# Altium footprint library blecontrollerPCB1_master.PcbLib: 180 footprints (part 8 of 12)
Each footprint in its own frame and in the unit in brackets; x right, y up, seen from the top. Pads: shape width x height; smd on the part's side, far side on the other; paste and mask are expansions set on the pad; w line width, h text height; cw(c..) or ccw(c..) is an arc to the next point about the centre after c.
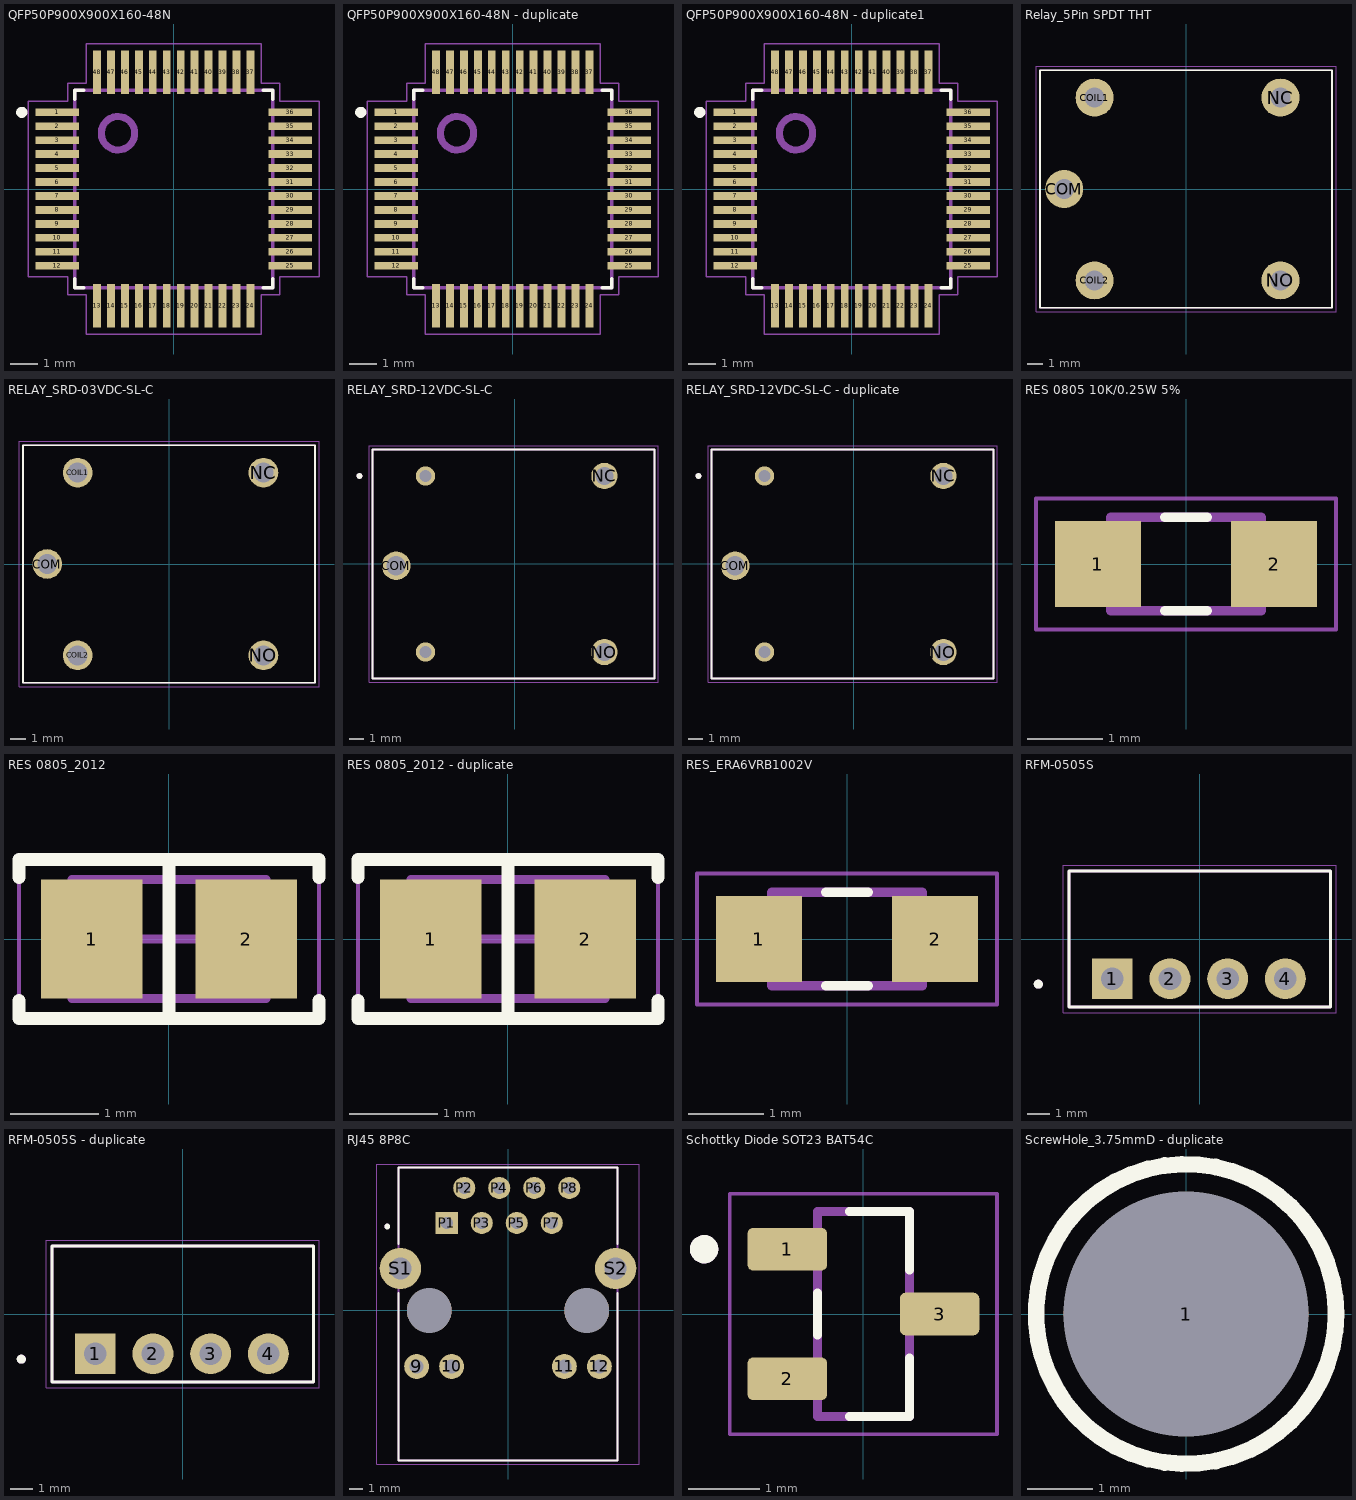
[diagram p7: the footprints below, top view; thin cyan lines are the x and y axes]

## QFP50P900X900X160-48N [mm]
pads (48):
  rect 1.56x0.28 smd: 1(-4.18,2.75) 2(-4.18,2.25) 3(-4.18,1.75) 4(-4.18,1.25) 5(-4.18,0.75) 6(-4.18,0.25) 7(-4.18,-0.25) 8(-4.18,-0.75) 9(-4.18,-1.25) 10(-4.18,-1.75) 11(-4.18,-2.25) 12(-4.18,-2.75) 25(4.18,-2.75) 26(4.18,-2.25) 27(4.18,-1.75) 28(4.18,-1.25) 29(4.18,-0.75) 30(4.18,-0.25) 31(4.18,0.25) 32(4.18,0.75) 33(4.18,1.25) 34(4.18,1.75) 35(4.18,2.25) 36(4.18,2.75)
  rect 0.28x1.56 smd: 13(-2.75,-4.18) 14(-2.25,-4.18) 15(-1.75,-4.18) 16(-1.25,-4.18) 17(-0.75,-4.18) 18(-0.25,-4.18) 19(0.25,-4.18) 20(0.75,-4.18) 21(1.25,-4.18) 22(1.75,-4.18) 23(2.25,-4.18) 24(2.75,-4.18) 37(2.75,4.18) 38(2.25,4.18) 39(1.75,4.18) 40(1.25,4.18) 41(0.75,4.18) 42(0.25,4.18) 43(-0.25,4.18) 44(-0.75,4.18) 45(-1.25,4.18) 46(-1.75,4.18) 47(-2.25,4.18) 48(-2.75,4.18)
Top Overlay:
  circle w0.2: c-5.45,2.75 r0.1
  lines w0.127: -3.55,-3.22 -3.55,-3.55 -3.22,-3.55 ; -3.55,3.22 -3.55,3.55 -3.22,3.55 ; 3.22,-3.55 3.55,-3.55 3.55,-3.22 ; 3.22,3.55 3.55,3.55 3.55,3.22
Mechanical 13:
  drawing of 53 lines, arcs and shapes, not listed
Mechanical 15:
  lines w0.05: -5.21,-3.14 -5.21,3.14 -3.8,3.14 -3.8,3.8 -3.14,3.8 -3.14,5.21 3.14,5.21 3.14,3.8 3.8,3.8 3.8,3.14 5.21,3.14 5.21,-3.14 3.8,-3.14 3.8,-3.8 3.14,-3.8 3.14,-5.21 -3.14,-5.21 -3.14,-3.8 -3.8,-3.8 -3.8,-3.14 -5.21,-3.14
3D body "W5500--3DModel-STEP-56544.STEP": height 1.6, standoff 0, extent -4.5,-4.5 4.5,4.5

## QFP50P900X900X160-48N - duplicate [mm]
pads (48):
  rect 1.56x0.28 smd: 1(-4.18,2.75) 2(-4.18,2.25) 3(-4.18,1.75) 4(-4.18,1.25) 5(-4.18,0.75) 6(-4.18,0.25) 7(-4.18,-0.25) 8(-4.18,-0.75) 9(-4.18,-1.25) 10(-4.18,-1.75) 11(-4.18,-2.25) 12(-4.18,-2.75) 25(4.18,-2.75) 26(4.18,-2.25) 27(4.18,-1.75) 28(4.18,-1.25) 29(4.18,-0.75) 30(4.18,-0.25) 31(4.18,0.25) 32(4.18,0.75) 33(4.18,1.25) 34(4.18,1.75) 35(4.18,2.25) 36(4.18,2.75)
  rect 0.28x1.56 smd: 13(-2.75,-4.18) 14(-2.25,-4.18) 15(-1.75,-4.18) 16(-1.25,-4.18) 17(-0.75,-4.18) 18(-0.25,-4.18) 19(0.25,-4.18) 20(0.75,-4.18) 21(1.25,-4.18) 22(1.75,-4.18) 23(2.25,-4.18) 24(2.75,-4.18) 37(2.75,4.18) 38(2.25,4.18) 39(1.75,4.18) 40(1.25,4.18) 41(0.75,4.18) 42(0.25,4.18) 43(-0.25,4.18) 44(-0.75,4.18) 45(-1.25,4.18) 46(-1.75,4.18) 47(-2.25,4.18) 48(-2.75,4.18)
Top Overlay:
  circle w0.2: c-5.45,2.75 r0.1
  lines w0.127: -3.55,-3.22 -3.55,-3.55 -3.22,-3.55 ; -3.55,3.22 -3.55,3.55 -3.22,3.55 ; 3.22,-3.55 3.55,-3.55 3.55,-3.22 ; 3.22,3.55 3.55,3.55 3.55,3.22
Mechanical 13:
  drawing of 53 lines, arcs and shapes, not listed
Mechanical 15:
  lines w0.05: -5.21,-3.14 -5.21,3.14 -3.8,3.14 -3.8,3.8 -3.14,3.8 -3.14,5.21 3.14,5.21 3.14,3.8 3.8,3.8 3.8,3.14 5.21,3.14 5.21,-3.14 3.8,-3.14 3.8,-3.8 3.14,-3.8 3.14,-5.21 -3.14,-5.21 -3.14,-3.8 -3.8,-3.8 -3.8,-3.14 -5.21,-3.14
3D body "W5500--3DModel-STEP-56544.STEP": height 1.6, standoff 0, extent -4.5,-4.5 4.5,4.5

## QFP50P900X900X160-48N - duplicate1 [mm]
pads (48):
  rect 1.56x0.28 smd: 1(-4.18,2.75) 2(-4.18,2.25) 3(-4.18,1.75) 4(-4.18,1.25) 5(-4.18,0.75) 6(-4.18,0.25) 7(-4.18,-0.25) 8(-4.18,-0.75) 9(-4.18,-1.25) 10(-4.18,-1.75) 11(-4.18,-2.25) 12(-4.18,-2.75) 25(4.18,-2.75) 26(4.18,-2.25) 27(4.18,-1.75) 28(4.18,-1.25) 29(4.18,-0.75) 30(4.18,-0.25) 31(4.18,0.25) 32(4.18,0.75) 33(4.18,1.25) 34(4.18,1.75) 35(4.18,2.25) 36(4.18,2.75)
  rect 0.28x1.56 smd: 13(-2.75,-4.18) 14(-2.25,-4.18) 15(-1.75,-4.18) 16(-1.25,-4.18) 17(-0.75,-4.18) 18(-0.25,-4.18) 19(0.25,-4.18) 20(0.75,-4.18) 21(1.25,-4.18) 22(1.75,-4.18) 23(2.25,-4.18) 24(2.75,-4.18) 37(2.75,4.18) 38(2.25,4.18) 39(1.75,4.18) 40(1.25,4.18) 41(0.75,4.18) 42(0.25,4.18) 43(-0.25,4.18) 44(-0.75,4.18) 45(-1.25,4.18) 46(-1.75,4.18) 47(-2.25,4.18) 48(-2.75,4.18)
Top Overlay:
  circle w0.2: c-5.45,2.75 r0.1
  lines w0.127: -3.55,-3.22 -3.55,-3.55 -3.22,-3.55 ; -3.55,3.22 -3.55,3.55 -3.22,3.55 ; 3.22,-3.55 3.55,-3.55 3.55,-3.22 ; 3.22,3.55 3.55,3.55 3.55,3.22
Mechanical 13:
  drawing of 53 lines, arcs and shapes, not listed
Mechanical 15:
  lines w0.05: -5.21,-3.14 -5.21,3.14 -3.8,3.14 -3.8,3.8 -3.14,3.8 -3.14,5.21 3.14,5.21 3.14,3.8 3.8,3.8 3.8,3.14 5.21,3.14 5.21,-3.14 3.8,-3.14 3.8,-3.8 3.14,-3.8 3.14,-5.21 -3.14,-5.21 -3.14,-3.8 -3.8,-3.8 -3.8,-3.14 -5.21,-3.14
3D body "W5500--3DModel-STEP-56544.STEP": height 1.6, standoff 0, extent -4.5,-4.5 4.5,4.5

## Relay_5Pin SPDT THT [mm] "Relay_5Pin SPDT THT RELAY_SRD-03VDC-SL-C"
height 15.8
pads (5):
  round 2.5 hole 1.3: COIL1(-6,6) COIL2(-6,-6) COM(-8,0) NC(6.2,6) NO(6.2,-6)
Top Overlay:
  lines w0.127: -9.6,-7.8 9.6,-7.8 9.6,7.8 -9.6,7.8 -9.6,-7.8
Mechanical 13:
  lines w0.127: -9.6,-7.8 9.6,-7.8 9.6,7.8 -9.6,7.8 -9.6,-7.8
Mechanical 15:
  lines w0.05: -9.85,-8.05 9.85,-8.05 9.85,8.05 -9.85,8.05 -9.85,-8.05
3D body "step_temp.STEP": height 15.8, standoff -3, extent -9.6,-7.8 9.6,7.8

## RELAY_SRD-03VDC-SL-C [mm]
height 15.8
pads (5):
  round 1.95 hole 1.3: COIL1(-6,6) COIL2(-6,-6) COM(-8,0) NC(6.2,6) NO(6.2,-6)
Top Overlay:
  lines w0.127: -9.6,-7.8 9.6,-7.8 9.6,7.8 -9.6,7.8 -9.6,-7.8
Mechanical 13:
  lines w0.127: -9.6,-7.8 9.6,-7.8 9.6,7.8 -9.6,7.8 -9.6,-7.8
Mechanical 15:
  lines w0.05: -9.85,-8.05 9.85,-8.05 9.85,8.05 -9.85,8.05 -9.85,-8.05
3D body "step_temp.STEP": height 15.8, standoff -3, extent -9.6,-7.8 9.6,7.8

## RELAY_SRD-12VDC-SL-C [mm]
pads (5):
  round 1.308 hole 0.8: COIL1(-6.1,6) COIL2(-6.1,-6)
  round 1.95 hole 1.3: COM(-8.1,-0.12)
  round 1.8 hole 1.2: NC(6.1,6) NO(6.1,-6)
Top Overlay:
  circle w0.2: c-10.6,6 r0.1
  lines w0.127: -9.7,-7.8 9.5,-7.8 9.5,7.8 -9.7,7.8 -9.7,-7.8
Mechanical 13:
  circle w0.2: c-10.6,6 r0.1
  lines w0.127: -9.7,-7.8 9.5,-7.8 9.5,7.8 -9.7,7.8 -9.7,-7.8
Mechanical 15:
  lines w0.05: -9.95,-8.05 9.75,-8.05 9.75,8.05 -9.95,8.05 -9.95,-8.05
3D body "step_temp.STEP": height 15.8, standoff -3, extent -9.6,-7.8 9.6,7.8

## RELAY_SRD-12VDC-SL-C - duplicate [mm]
pads (5):
  round 1.308 hole 0.8: COIL1(-6.1,6) COIL2(-6.1,-6)
  round 1.95 hole 1.3: COM(-8.1,-0.12)
  round 1.8 hole 1.2: NC(6.1,6) NO(6.1,-6)
Top Overlay:
  circle w0.2: c-10.6,6 r0.1
  lines w0.127: -9.7,-7.8 9.5,-7.8 9.5,7.8 -9.7,7.8 -9.7,-7.8
Mechanical 13:
  circle w0.2: c-10.6,6 r0.1
  lines w0.127: -9.7,-7.8 9.5,-7.8 9.5,7.8 -9.7,7.8 -9.7,-7.8
Mechanical 15:
  lines w0.05: -9.95,-8.05 9.75,-8.05 9.75,8.05 -9.95,8.05 -9.95,-8.05
3D body "step_temp.STEP": height 15.8, standoff -3, extent -9.6,-7.8 9.6,7.8

## RES 0805 10K/0.25W 5% [mm] "RESISTOR, THICK FILM, 10K, 5%, 0805, SMT FULL REEL Product Range:PANASONIC - ERJ Series"
height 0.55
pads (2):
  rect 1.15x1.15 smd: 1(-1.175,0) 2(1.175,0)
Top Overlay:
  lines w0.127: -0.28,-0.625 0.28,-0.625 ; -0.28,0.625 0.28,0.625
Mechanical 13:
  lines w0.127: -1,-0.625 1,-0.625 1,0.625 -1,0.625 -1,-0.625
Mechanical 15:
  lines w0.05: -2,-0.875 2,-0.875 2,0.875 -2,0.875 -2,-0.875
3D body "step_temp.STEP": height 0.7, standoff 0, extent -1,-0.625 1,0.625

## RES 0805_2012 [mm]
pads (2):
  rect 1.15x1.35 smd: 1(-0.875,0) 2(0.875,0)
Top Overlay:
  lines w0.15: -1.7,-0.7 -1.7,-0.9 1.7,-0.9 1.7,-0.7 ; -1.7,0.7 -1.7,0.9 1.7,0.9 1.7,0.7 ; 0,-0.9 0,0.9
Mechanical 13:
  lines w0.1: -1.1,-0.675 -1.1,0.675 1.1,0.675 1.1,-0.675 -1.1,-0.675
Mechanical 15:
  lines w0.05: -1.7,-0.95 -1.7,0.95 1.7,0.95 1.7,-0.95 -1.7,-0.95
  lines w0.1: -0.5,0 0.5,0 ; 0,-0.5 0,0.5
3D body "0805 resistor.STEP": height 0.6, standoff 0, extent -1,-0.625 1,0.625

## RES 0805_2012 - duplicate [mm]
pads (2):
  rect 1.15x1.35 smd: 1(-0.875,0) 2(0.875,0)
Top Overlay:
  lines w0.15: -1.7,-0.7 -1.7,-0.9 1.7,-0.9 1.7,-0.7 ; -1.7,0.7 -1.7,0.9 1.7,0.9 1.7,0.7 ; 0,-0.9 0,0.9
Mechanical 13:
  lines w0.1: -1.1,-0.675 -1.1,0.675 1.1,0.675 1.1,-0.675 -1.1,-0.675
Mechanical 15:
  lines w0.05: -1.7,-0.95 -1.7,0.95 1.7,0.95 1.7,-0.95 -1.7,-0.95
  lines w0.1: -0.5,0 0.5,0 ; 0,-0.5 0,0.5
3D body "0805 resistor.STEP": height 0.6, standoff 0, extent -1,-0.625 1,0.625

## RES_ERA6VRB1002V [mm]
pads (2):
  rect 1.15x1.15 smd: 1(-1.175,0) 2(1.175,0)
Top Overlay:
  lines w0.127: -0.28,-0.625 0.28,-0.625 ; -0.28,0.625 0.28,0.625
Mechanical 13:
  lines w0.127: -1,-0.625 1,-0.625 1,0.625 -1,0.625 -1,-0.625
Mechanical 15:
  lines w0.05: -2,-0.875 2,-0.875 2,0.875 -2,0.875 -2,-0.875
3D body "step_temp.STEP": height 0.7, standoff 0, extent -1,-0.625 1,0.625

## RFM-0505S [mm] "DC-DC Converter/Isolator, SIP4, THT S/T 1kV unreg, Single Output, 1W, 5V Out, RFM Series RFM-0505S"
height 10
pads (4):
  rect 1.8x1.8 hole 1: 1(-3.85,-1.75)
  round 1.8 hole 1: 2(-1.31,-1.75) 3(1.23,-1.75) 4(3.77,-1.75)
Top Overlay:
  circle w0.2: c-7.11,-1.99 r0.1
  lines w0.127: -5.75,-3 5.75,-3 5.75,3 -5.75,3 -5.75,-3
Mechanical 13:
  circle w0.2: c-7.1,-1.99 r0.1
  lines w0.127: -5.75,-3 5.75,-3 5.75,3 -5.75,3 -5.75,-3
Mechanical 15:
  lines w0.05: -6,-3.25 6,-3.25 6,3.25 -6,3.25 -6,-3.25
3D body "step_temp.STEP": height 10, standoff -4.1, extent -5.75,-3 5.75,3

## RFM-0505S - duplicate [mm] "DC-DC Converter/Isolator, SIP4, THT S/T 1kV unreg, Single Output, 1W, 5V Out, RFM Series RFM-0505S"
height 10
pads (4):
  rect 1.8x1.8 hole 1: 1(-3.85,-1.75)
  round 1.8 hole 1: 2(-1.31,-1.75) 3(1.23,-1.75) 4(3.77,-1.75)
Top Overlay:
  circle w0.2: c-7.11,-1.99 r0.1
  lines w0.127: -5.75,-3 5.75,-3 5.75,3 -5.75,3 -5.75,-3
Mechanical 13:
  circle w0.2: c-7.1,-1.99 r0.1
  lines w0.127: -5.75,-3 5.75,-3 5.75,3 -5.75,3 -5.75,-3
Mechanical 15:
  lines w0.05: -6,-3.25 6,-3.25 6,3.25 -6,3.25 -6,-3.25
3D body "step_temp.STEP": height 10, standoff -4.1, extent -5.75,-3 5.75,3

## RJ45 8P8C [mm] "RJ45 8P8C CUI_CRJ011-ML1-TH"
height 13.6
pads (16):
  round 1.808 hole 1: 9(-6.63,-4.06) 10(-4.09,-4.06) 11(4.09,-4.06) 12(6.63,-4.06)
  rect 1.608x1.608 hole 0.9: P1(-4.445,6.35)
  round 1.608 hole 0.9: P2(-3.175,8.89) P3(-1.905,6.35) P4(-0.635,8.89) P5(0.635,6.35) P6(1.905,8.89) P7(3.175,6.35) P8(4.445,8.89)
  round 3 hole 1.6: S1(-7.815,3.05) S2(7.815,3.05)
  round 3.25 hole 3.25 unplated: ""(-5.715,0) ""(5.715,0)
Top Overlay:
  circle w0.2: c-8.763,6.096 r0.111
  lines w0.127: -7.94,1.27 -7.94,-10.89 7.94,-10.89 7.94,1.27 ; -7.94,4.826 -7.94,10.38 7.94,10.38 7.94,4.826
Mechanical 13:
  circle w0.2: c-8.763,6.096 r0.1
  lines w0.127: -7.94,-10.89 -7.94,10.38 7.94,10.38 7.94,-10.89 -7.94,-10.89
Mechanical 15:
  lines w0.05: -9.525,-11.14 9.525,-11.14 9.525,10.63 -9.525,10.63 -9.525,-11.14
3D body "step_temp.STEP": height 13.3, standoff -3.74, extent -8.34,-10.922 8.34,10.345

## Schottky Diode SOT23 BAT54C [mm] "Schottky Diode SOT23 BAT54C"
height 1.15
pads (3):
  rrect25% 1.12x0.6 smd: 1(-1.075,0.915) 2(-1.075,-0.915) 3(1.075,0)
Top Overlay:
  circle w0.2: c-2.25,0.915 r0.1
  lines w0.127: -0.65,-0.295 -0.65,0.295 ; -0.195,-1.45 0.65,-1.45 0.65,-0.62 ; -0.195,1.45 0.65,1.45 0.65,0.62
Mechanical 13:
  circle w0.2: c-2.25,0.915 r0.1
  lines w0.127: -0.65,-1.45 0.65,-1.45 0.65,1.45 -0.65,1.45 -0.65,-1.45
Mechanical 15:
  lines w0.05: -1.885,-1.7 1.885,-1.7 1.885,1.7 -1.885,1.7 -1.885,-1.7
3D body "step_temp.STEP": height 1.14, standoff 0, extent -1.2,-1.45 1.2,1.45

## ScrewHole_3.75mmD - duplicate [mm] "SCREW HEAD DIA 4.5MM, SREW LEG DIA 3 MM"
pads (1):
  round 3.75 hole 3.75 unplated: 1(0,0)
Top Overlay:
  circle w0.254: c0,0 r2.3